# Altium footprint library SymphonyLights_MCU.PcbLib: 24 footprints (part 1 of 2)
Each footprint in its own frame and in the unit in brackets; x right, y up, seen from the top. Pads: shape width x height; smd on the part's side, far side on the other; paste and mask are expansions set on the pad; w line width, h text height; cw(c..) or ccw(c..) is an arc to the next point about the centre after c.
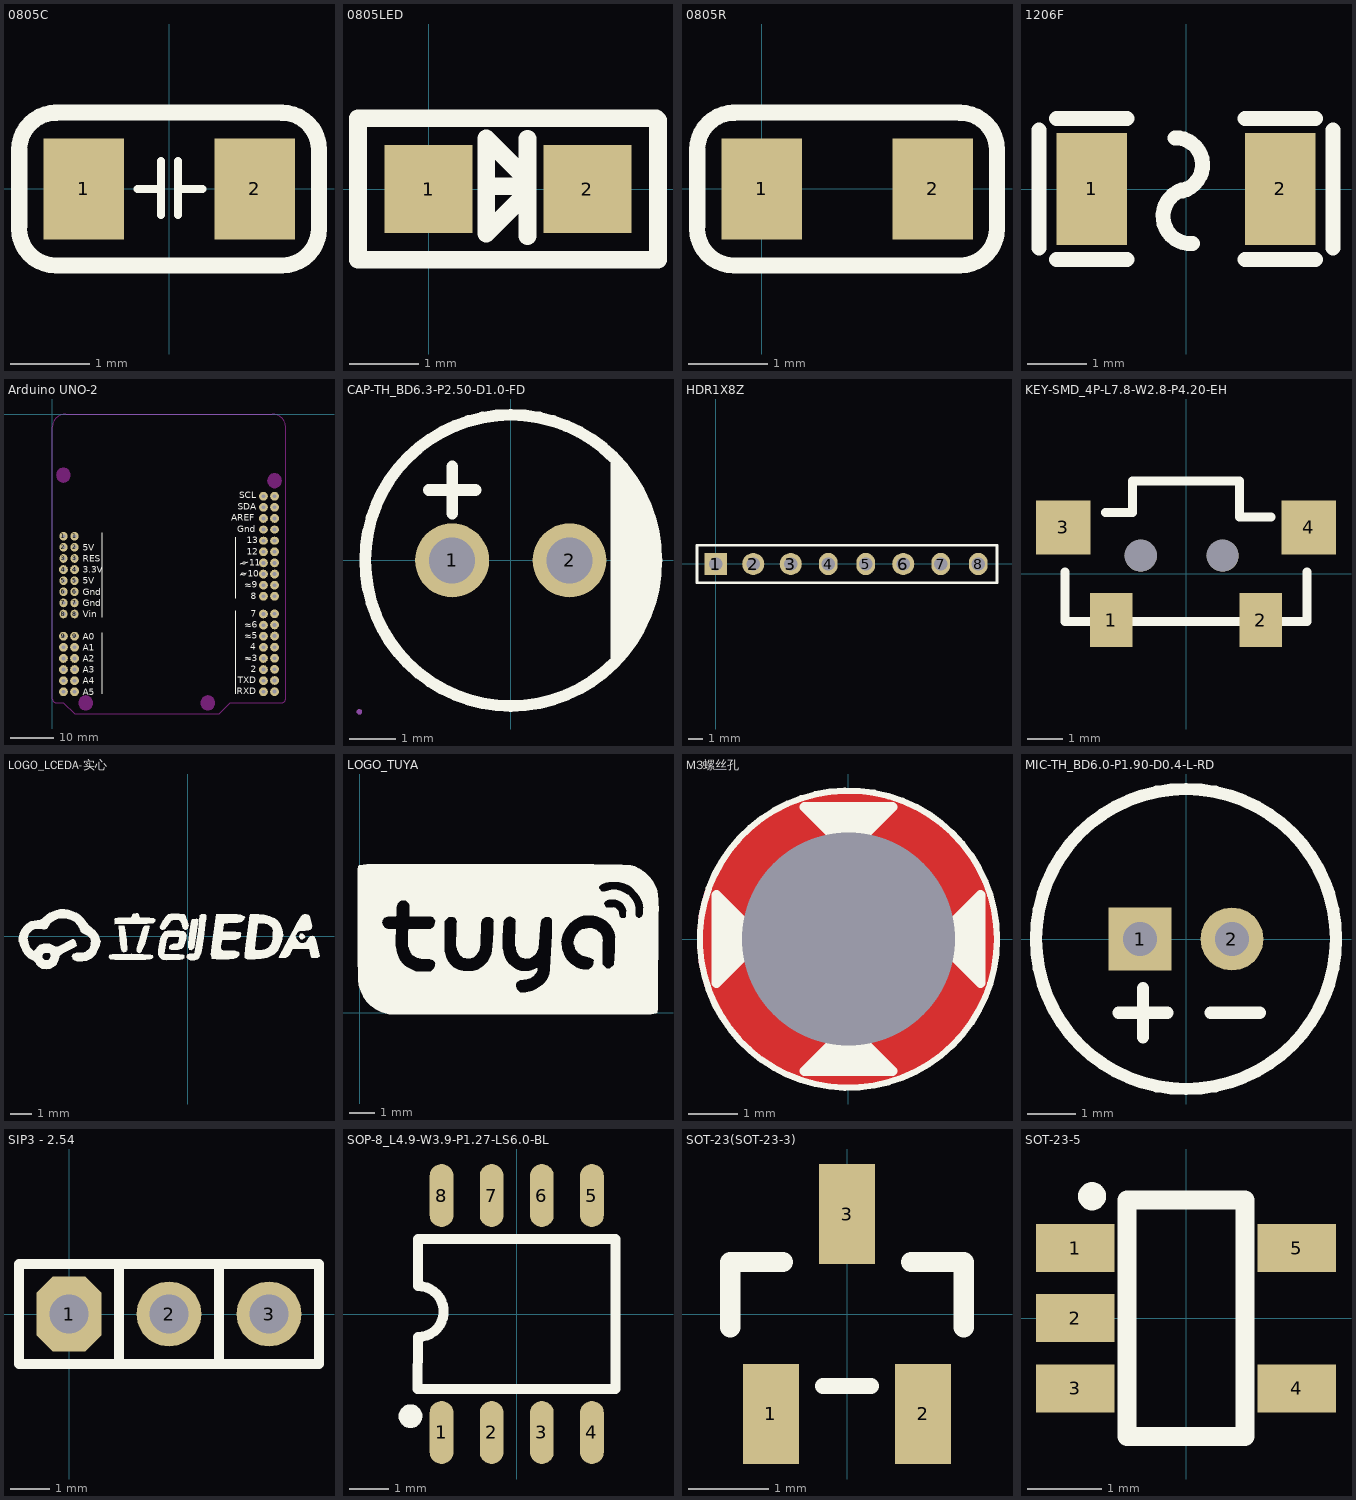
[diagram p0: the footprints below, top view; thin cyan lines are the x and y axes]

## 0805C [mil]
height 39.37
pads (2):
  rect 40x50 smd: 1(-42.5,0) 2(42.5,0)
Top Overlay:
  lines w3.94: -15.75,0 -3.94,0 ; -3.94,-13 -3.94,14 ; 4.5,-13 4.5,14 ; 4.5,0 16.5,0
  lines w8: -74.61,-19.59 ccw(c-56.2,-19.59) -56.2,-38 ; -74.5,-18.5 -74.5,18.5 ; -74.5,19.5 cw(c-56.09,19.5) -56.09,37.91 ; -56.62,38 55.59,38 ; -55.2,-38 55.61,-38 ; 56.09,-38 ccw(c56.09,-19.59) 74.5,-19.59 ; 56.09,37.91 cw(c56.09,19.5) 74.5,19.5 ; 74.5,-18.59 74.5,18.5
3D body: height 30.39, standoff -0.39, extent -39.35,-24.61 39.39,24.61

## 0805LED [mil]
pads (2):
  rect 50x50 smd: 1(0,0) 2(90,0)
Top Overlay:
  lines w10: -40,-38 -40,40 129,40 ; -39,-39 -40,-40 130,-40 130,39 ; 32.72,1.65 54.72,1.65 56.02,2.95 ; 56.02,-26.65 56.02,28.46 ; 32.72,-25.2 32.72,28.62 56.02,5.31 56.02,-1.89 32.72,-25.2
3D body: height 30.39, standoff -0.39, extent 5.63,-25 84.37,24.21

## 0805R [mil]
height 39.37
pads (2):
  rect 40x50 smd: 1(0,0) 2(85,0)
Top Overlay:
  lines w8: -32.11,-19.59 ccw(c-13.7,-19.59) -13.7,-38 ; -32,-18.5 -32,18.5 ; -32,19.5 cw(c-13.59,19.5) -13.59,37.91 ; -14.12,38 98.09,38 ; -12.7,-38 98.11,-38 ; 98.59,-38 ccw(c98.59,-19.59) 117,-19.59 ; 98.59,37.91 cw(c98.59,19.5) 117,19.5 ; 117,-18.59 117,18.5
3D body: height 21.65, standoff 0, extent 2.62,-24.85 81.36,24.76

## 1206F [mm]
height 2.65
pads (2):
  rect 1.2x1.9 smd: 1(-1.6,0) 2(1.6,0)
Top Overlay:
  lines w0.254: -2.5,-1 -2.5,1 ; -2.2,-1.2 -1,-1.2 ; -2.2,1.2 -1,1.2 ; -0.19,0.87 cw(c-0.178,0.411) -0.137,-0.046 ; 0,0 ccw(c0.079,-0.462) 0.11,-0.93 ; 1,-1.2 2.2,-1.2 ; 1,1.2 2.2,1.2 ; 2.5,-1 2.5,1

## Arduino UNO-2 [mm]
pads (64):
  oval 1.8x2 hole 0.85: 1(2.54,-27.94) 1(5.08,-27.94) 2(2.54,-30.48) 2(5.08,-30.48) 3(2.54,-33.02) 3(5.08,-33.02) 5(2.54,-38.1) 5(5.08,-38.1) 6(2.54,-40.64) 6(5.08,-40.64) 7(2.54,-43.18) 7(5.08,-43.18) 8(2.54,-45.72) 8(5.08,-45.72)
  round 2 hole 0.85: 4(2.54,-35.56) 4(5.08,-35.56) 9(2.54,-50.8) 9(5.08,-50.8) 10(2.54,-53.34) 10(5.08,-53.34) 11(2.54,-55.88) 11(5.08,-55.88) 12(2.54,-58.42) 12(5.08,-58.42) 13(2.54,-60.96) 13(5.08,-60.96) 14(2.54,-63.5) 14(5.08,-63.5) 15(48.26,-63.5) 15(50.8,-63.46) 16(48.26,-60.96) 16(50.8,-60.92) 17(48.26,-58.42) 17(50.8,-58.38) 18(48.26,-55.88) 18(50.8,-55.84) 19(48.26,-53.34) 19(50.8,-53.3) 20(48.26,-50.8) 20(50.8,-50.76) 21(48.26,-48.26) 21(50.8,-48.22) 22(48.26,-45.72) 22(50.8,-45.68) 23(48.26,-41.66) 23(50.8,-41.66) 24(48.26,-39.12) 24(50.8,-39.12) 25(48.26,-36.58) 25(50.8,-36.58) 26(48.26,-34.04) 26(50.8,-34.04) 27(48.26,-31.5) 27(50.8,-31.5) 30(48.26,-23.88) 30(50.8,-23.88) 31(48.26,-21.34) 31(50.8,-21.34) 32(48.26,-18.8) 32(50.8,-18.8)
  oval 2x1.8 hole 0.85: 28(48.26,-28.96) 28(50.8,-28.96) 29(48.26,-26.42) 29(50.8,-26.42)
Top Overlay:
  lines w0.254: 11.361,-64.008 11.361,-50.038 ; 11.361,-46.482 11.361,-27.178 ; 41.979,-64.008 41.979,-44.958 ; 41.979,-42.168 41.979,-28.198
  text "SDA" at 42.434,-21.844 h1.5
  text "SCL" at 42.777,-19.304 h1.5
  text "AREF" at 40.906,-24.384 h1.5
  text "RES" at 6.985,-33.77 h1.5
  text "3.3V" at 6.985,-36.31 h1.5
  text "5V" at 6.985,-38.85 h1.5
  text "Gnd" at 6.985,-41.39 h1.5
  text "Gnd" at 6.985,-43.93 h1.5
  text "Vin" at 6.985,-46.47 h1.5
  text "A0" at 6.985,-51.55 h1.5
  text "A1" at 6.985,-54.09 h1.5
  text "A2" at 6.985,-56.63 h1.5
  text "A3" at 6.985,-59.17 h1.5
  text "A4" at 6.985,-61.71 h1.5
  text "A5" at 6.985,-64.25 h1.5
  text "TXD" at 42.377,-61.555 h1.5
  text "RXD" at 42.184,-64.095 h1.5
  text "2" at 45.355,-59.015 h1.5
  text "~3" at 43.877,-56.475 h1.5
  text "4" at 45.284,-53.935 h1.5
  text "~5" at 43.877,-51.395 h1.5
  text "~6" at 43.877,-48.855 h1.5
  text "7" at 45.355,-46.315 h1.5
  text "8" at 45.355,-42.295 h1.5
  text "~9" at 43.877,-39.755 h1.5
  text "~10" at 42.977,-37.215 h1.5
  text "~11" at 43.334,-34.675 h1.5
  text "12" at 44.455,-32.135 h1.5
  text "13" at 44.455,-29.595 h1.5
  text "Gnd" at 42.256,-27.055 h1.5
  text "5V" at 6.985,-31.23 h1.5
  text "~" at 43.993,-40.137 h1.52
  text "~" at 42.723,-37.597 h1.52
  text "~" at 42.723,-35.057 h1.52
  text "~" at 43.993,-56.897 h1.52
  text "~" at 43.993,-51.817 h1.52
  text "~" at 43.993,-49.277 h1.52
Keep-Out Layer:
  drawing of 20 lines, arcs and shapes, not listed

## CAP-TH_BD6.3-P2.50-D1.0-FD [mm]
pads (2):
  round 1.6 hole 1: 1(-1.27,0) 2(1.27,0)
Top Overlay:
  circle w0.254: c0,0 r3.15
  region: 2.16,2.287 2.28,2.184 2.595,1.816 2.848,1.402 3.033,0.955 3.146,0.483 3.185,0 3.146,-0.483 3.033,-0.955 2.848,-1.402 2.595,-1.816 2.28,-2.184 2.16,-2.287 2.159,-2.286
  lines w0.254: -1.778,1.524 -0.762,1.524 ; -1.27,1.016 -1.27,2.032
Mechanical 5:
  circle w0.4: c-1.27,0 r0.2
  circle w0.4: c1.27,0 r0.2
Mechanical 6:
  circle w0.06: c-3.277,-3.277 r0.03

## HDR1X8Z [mm] "Connector; Header; 8 Position"
pads (8):
  rect 1.5x1.5 hole 0.9: 1(0,0)
  round 1.5 hole 0.9: 2(2.54,0) 3(5.08,0) 6(12.7,0)
  oval 1.27x1.5 hole 0.9: 4(7.62,0) 5(10.16,0) 7(15.24,0) 8(17.78,0)
Top Overlay:
  lines w0.2: -1.27,-1.27 -1.27,1.27 19.05,1.27 19.05,-1.27 -1.27,-1.27
3D body: height 8.65, standoff -2.9, extent 8.89,-1.25 19.05,1.25
3D body: height 8.65, standoff -2.9, extent -1.27,-1.25 8.89,1.25

## KEY-SMD_4P-L7.8-W2.8-P4.20-EH [mil]
pads (6):
  rect 47.2x60 smd: 1(-82.7,-51.15) 2(82.7,-51.15)
  rect 60x60 smd: 3(-135.8,51.15) 4(135.8,51.15)
  round 35.43 hole 35.43 unplated: ""(-50,19.95) ""(40.55,19.95)
Top Overlay:
  lines w10: -133.9,2.15 -133.9,-52.85 133.9,-52.85 133.9,2.15 ; -89.1,67.65 -59.1,67.65 -59.1,102.65 59.1,102.65 59.1,62.65 94.1,62.65

## LOGO_LCEDA-实心 [mm]
Top Overlay:
  drawing of 451 lines, arcs and shapes, not listed

## LOGO_TUYA [mm]
Top Overlay:
  drawing of 293 lines, arcs and shapes, not listed

## M3螺丝孔 [mm]
height 2.65
pads (1):
  round 3.5 hole 4.3 unplated: ""(0,0)
Top Layer:
  pour cut-out: -3.057,0 -3.02,-0.471 -2.91,-0.93 -2.729,-1.366 -2.483,-1.769 -2.176,-2.128 -1.817,-2.435 -1.414,-2.681 -0.978,-2.862 -0.519,-2.972 -0.048,-3.009 0.423,-2.972 0.882,-2.862 1.318,-2.681 1.721,-2.435 2.08,-2.128 2.387,-1.769 2.633,-1.366 2.814,-0.93 2.924,-0.471 2.961,0 2.924,0.471 2.814,0.93 2.633,1.366 2.387,1.769 2.08,2.128 1.721,2.435 1.318,2.681 0.882,2.862 0.423,2.972 -0.048,3.009 -0.519,2.972 -0.978,2.862 -1.414,2.681 -1.817,2.435 -2.176,2.128 -2.483,1.769 -2.729,1.366 -2.91,0.93 -3.02,0.471
Bottom Layer:
  pour cut-out: -3.057,0 -3.02,-0.471 -2.91,-0.93 -2.729,-1.366 -2.483,-1.769 -2.176,-2.128 -1.817,-2.435 -1.414,-2.681 -0.978,-2.862 -0.519,-2.972 -0.048,-3.009 0.423,-2.972 0.882,-2.862 1.318,-2.681 1.721,-2.435 2.08,-2.128 2.387,-1.769 2.633,-1.366 2.814,-0.93 2.924,-0.471 2.961,0 2.924,0.471 2.814,0.93 2.633,1.366 2.387,1.769 2.08,2.128 1.721,2.435 1.318,2.681 0.882,2.862 0.423,2.972 -0.048,3.009 -0.519,2.972 -0.978,2.862 -1.414,2.681 -1.817,2.435 -2.176,2.128 -2.483,1.769 -2.729,1.366 -2.91,0.93 -3.02,0.471
Top Overlay:
  lines w0.127: 3,-0.007 cw(c0,-0.004) 3,0
  lines w0.203: -2.667,-0.127 -2.667,0.889 -1.778,0 -2.667,-0.889 -2.667,0.254 ; -2.54,0.635 -1.905,0 ; -2.413,0 -2.413,-0.127 -2.286,0 -2.54,0.254 -2.54,-0.381 -2.159,0 -2.667,0.508 -2.667,-0.635 -2.032,0 ; -0.635,-2.54 0,-1.905 ; -0.254,-2.667 0.889,-2.667 0,-1.778 -0.889,-2.667 0.127,-2.667 ; -0.127,2.667 0.889,2.667 0,1.778 -0.889,2.667 0.254,2.667 ; 0,-2.413 0.127,-2.413 0,-2.286 -0.254,-2.54 0.381,-2.54 0,-2.159 -0.508,-2.667 0.635,-2.667 0,-2.032 ; 0,1.905 0.635,2.54 ; 0,2.032 -0.635,2.667 0.508,2.667 0,2.159 -0.381,2.54 0.254,2.54 0,2.286 -0.127,2.413 0,2.413 ; 1.905,0 2.54,-0.635 ; 2.032,0 2.667,0.635 2.667,-0.508 2.159,0 2.54,0.381 2.54,-0.254 2.286,0 2.413,0.127 2.413,0 ; 2.667,-0.254 2.667,0.889 1.778,0 2.667,-0.889 2.667,0.127
Bottom Overlay:
  lines w0.127: 3,-0.004 cw(c0,0) 3,0.004
  lines w0.203: -2.667,-0.127 -2.667,0.889 -1.778,0 -2.667,-0.889 -2.667,0.254 ; -2.54,0.635 -1.905,0 ; -2.413,0 -2.413,-0.127 -2.286,0 -2.54,0.254 -2.54,-0.381 -2.159,0 -2.667,0.508 -2.667,-0.635 -2.032,0 ; -0.635,-2.54 0,-1.905 ; -0.254,-2.667 0.889,-2.667 0,-1.778 -0.889,-2.667 0.127,-2.667 ; -0.127,2.667 0.889,2.667 0,1.778 -0.889,2.667 0.254,2.667 ; 0,-2.413 0.127,-2.413 0,-2.286 -0.254,-2.54 0.381,-2.54 0,-2.159 -0.508,-2.667 0.635,-2.667 0,-2.032 ; 0,1.905 0.635,2.54 ; 0,2.032 -0.635,2.667 0.508,2.667 0,2.159 -0.381,2.54 0.254,2.54 0,2.286 -0.127,2.413 0,2.413 ; 1.905,0 2.54,-0.635 ; 2.032,0 2.667,0.635 2.667,-0.508 2.159,0 2.54,0.381 2.54,-0.254 2.286,0 2.413,0.127 2.413,0 ; 2.667,-0.254 2.667,0.889 1.778,0 2.667,-0.889 2.667,0.127
Top Solder:
  circle w0.051: c0,0 r3
Bottom Solder:
  circle w0.051: c0,0 r3
Mechanical 15:
  lines w0.1: 3,-0.007 cw(c0,-0.004) 3,0

## MIC-TH_BD6.0-P1.90-D0.4-L-RD [mm]
height 2.65
pads (2):
  rect 1.3x1.3 hole 0.7: 1(-0.95,0)
  round 1.3 hole 0.7: 2(0.95,0)
Top Overlay:
  circle w0.254: c0,0 r3.1
  lines w0.254: -1.397,-1.524 -0.381,-1.524 ; -0.889,-2.032 -0.889,-1.016 ; 0.508,-1.524 1.524,-1.524

## SIP3 - 2.54 [mil]
pads (3):
  oct 65x75 hole 39.37: 1(0,0)
  round 65 hole 39.37: 2(100,0) 3(200,0)
Top Overlay:
  lines w10: 50,-50 50,50 ; 150,-50 250,-50 250,50 150,50 ; 150,-50 150,50 ; 150,-50 -50,-50 -50,50 150,50

## SOP-8_L4.9-W3.9-P1.27-LS6.0-BL [mm]
pads (8):
  oval 0.6x1.598 smd: 1(-1.905,-3) 2(-0.635,-3) 3(0.635,-3) 4(1.905,-3) 5(1.905,3) 6(0.635,3) 7(-0.635,3) 8(-1.905,3)
Top Overlay:
  lines w0.254: -2.515,-1.905 -2.5,-0.584 ccw(c-2.5,0.064) -2.5,0.711 ; -2.5,-1.9 2.5,-1.9 2.5,1.9 -2.5,1.9 -2.5,0.711
  lines w0.3: -2.692,-2.438 ccw(c-2.691,-2.588) -2.69,-2.438

## SOT-23(SOT-23-3) [mm]
pads (3):
  rect 0.7x1.25 smd: 1(-0.95,-1.25) 2(0.95,-1.25) 3(0,1.25)
Top Overlay:
  lines w0.2: -0.3,-0.9 0.3,-0.9
  lines w0.254: -1.46,-0.165 -1.46,0.65 -0.8,0.65 ; 1.46,-0.165 1.46,0.65 ; 0.8,0.65 1.46,0.65 ; 0.8,0.65 1.46,0.65 ; 0.8,0.65 1.46,0.65

## SOT-23-5 [mm]
pads (5):
  rect 1.06x0.65 smd: 1(-1.5,0.95) 2(-1.5,0) 3(-1.5,-0.95) 4(1.5,-0.95) 5(1.5,0.95)
Top Overlay:
  circle w0.254: c-1.27,1.651 r0.064
  lines w0.254: -0.8,-1.6 -0.8,1.6 0.8,1.6 0.8,-1.6 -0.8,-1.6